# EAGLE library part AP3211KTR-G1 (library Shiftbly-PowerIC)
Buck Switching Voltage Regulator IC Positive Adjustable 0.81V 1 Output 1.5A SOT-23-6 Output 0.81 and 15V. Input 4.5V to 18V
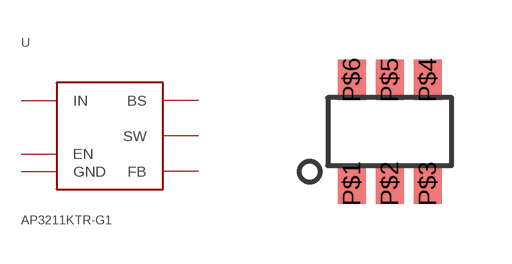
[diagram p1: symbol with the pads of SOT-23-6; footprint SOT-23-6]

Designator prefix U

## AP3211KTR-G1  [SOT-23-6]
P$1  BS
P$2  GND
P$3  FB
P$4  EN
P$5  IN
P$6  SW

## Footprint SOT-23-6 (pad centres in mm)
smd 0.7 x 1: P$1 -0.95,-1.3; P$2 0,-1.3; P$3 0.95,-1.3; P$4 0.95,1.3; P$5 0,1.3; P$6 -0.95,1.3